# Altium schematic symbol library Other.SchLib: 15 symbols
Pins are listed as number, name and electrical type; pins without a type are passive.

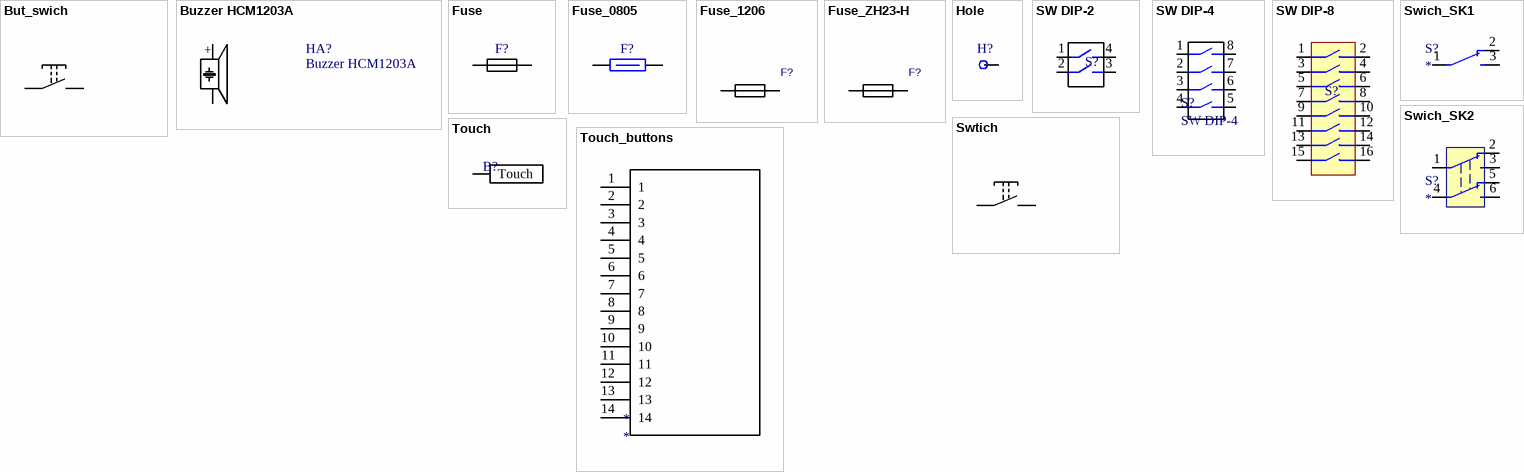
[diagram p0: symbols But_swich to Touch_buttons]

## But_swich
designator S?, comment Button
But_swich
footprint But_tact
pins: 1 NO, 2 NO

## Buzzer HCM1203A
designator HA?
Zymmer. Electro-Magnetic Sound Generators; Published: 04-Nov-2010; LatestRevisionDate: 04-Nov-2010; PackageVersion: revA; Publisher: Sergeev; PackageDescription: D=12, h=9, d=0.6; ComponentLink1Description: Manufacturer Link; ComponentLink2Description: Datasheet; Datasheet: http://chip-nn.ru/doc/all/2417/2417.zip; Link: http://chip-nn.ru/doc/all/2417/2417.zip
footprint HCM1203A (D=12, h=9, d=0.6)
pins: 1 +, 2 -

## Fuse
designator F?
Fuse
footprint Fuse 5x20 (5x20 mm)
footprint Fuse H520PT (5x20 mm)
footprint FUSE_5A
footprint Fuse RFS
footprint Fuse RFTQ
footprint Fuse 5x20 holder (5x20 mm)
pins: 1, 2

## Fuse_0805
designator F?
Fuse
footprint FUSE_0805 (Resistor Pattern)
pins: 1, 2

## Fuse_1206
designator F?
Fuse
footprint Fuse_1206
pins: 1, 2

## Fuse_ZH23-H
designator F?
Fuse
footprint FUSE_ZH23-H (5x20 mm)
pins: 1, 2

## Hole
designator H?
footprint Pad_3x1
footprint Pad_8x3
footprint Pad_5x2
footprint Pad_5x1.5
footprint Hole_1x2
footprint Hole_1.5x3
pins: 0

## SW DIP-2
designator S?  (value not drawn)
DIP Switch_2
footprint DIP_SW_2_SMD (DIP Switch; 2 Leads)
footprint Swich_DIP2
footprint Swich_DIP2_SW
pins: 1, 2, 3, 4

## SW DIP-4
designator S?
DIP Switch_2
footprint Swich_DIP4
footprint Swich_DIP4_DA-04
footprint Swich_DIP4_SWD
pins: 1, 2, 3, 4, 5, 6, 7, 8

## SW DIP-8
designator S?  (value not drawn)
DIP Switch_8
footprint Swich_DIP8
footprint Swich_DIP8_DA-08
footprint Swich_DIP8_SWD
pins: 1, 2, 3, 4, 5, 6, 7, 8, 9, 10, 11, 12, 13, 14, 15, 16

## Swich_SK1
designator S?
Swich_SK1
footprint Swich_SK12N11V04
pins: 1, 2, 3

## Swich_SK2
designator S?
Swich_SK2
footprint Swich_SK2
pins: 1, 2, 3, 4, 5, 6

## Swtich
designator S?
Swtich
footprint SW_SMD
footprint SW_LTL613
footprint Swich_TACTA-68N-F
footprint Swich_TACTA-68N-F_
pins: 1 COMMON, 2 NO

## Touch
designator B?  (value not drawn)
footprint Touch (Touch_Button)
pins: 0 Touch "0"

## Touch_buttons
designator *
footprint Touch_button
pins: 1, 2, 3, 4, 5, 6, 7, 8, 9, 10, 11, 12, 13, 14